# Altium footprint library Analog Devices.PcbLib: 28 footprints (part 1 of 2)
Each footprint in its own frame and in the unit in brackets; x right, y up, seen from the top. Pads: shape width x height; smd on the part's side, far side on the other; paste and mask are expansions set on the pad; w line width, h text height; cw(c..) or ccw(c..) is an arc to the next point about the centre after c.
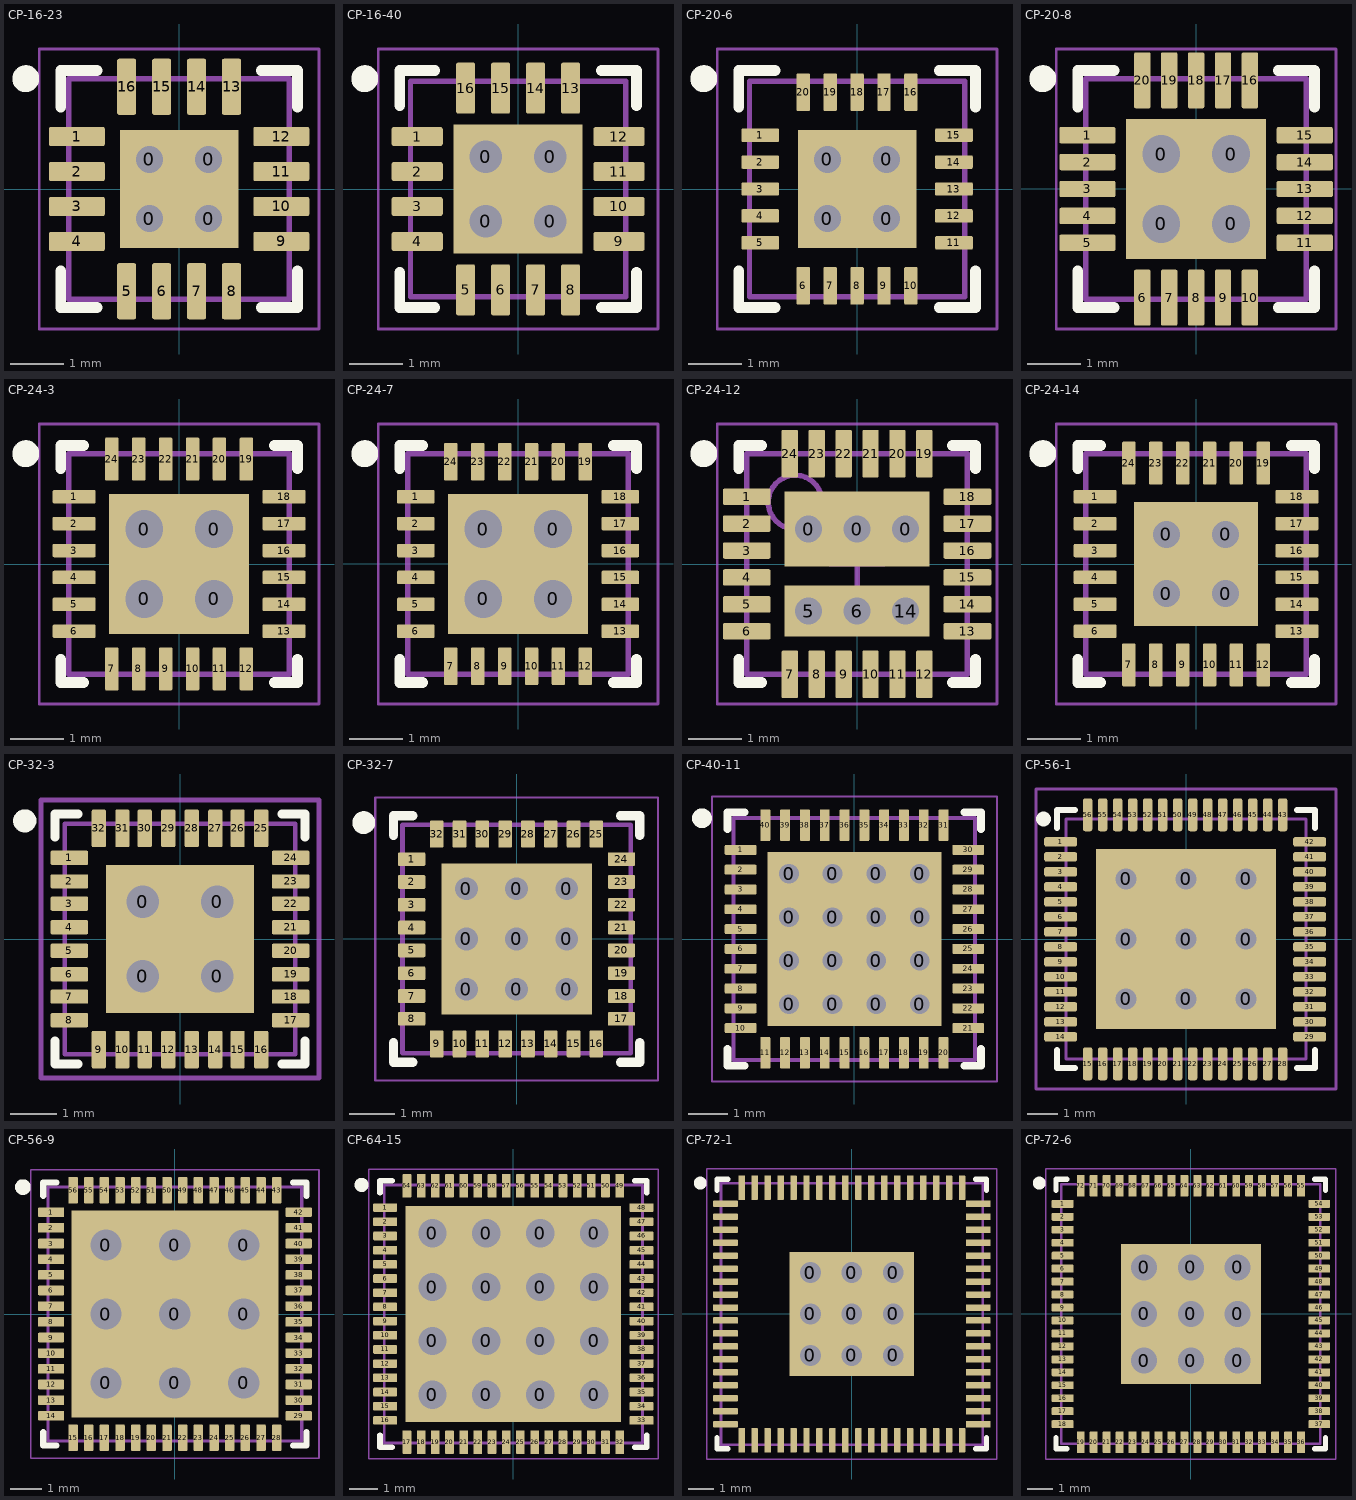
[diagram p0: the footprints below, top view; thin cyan lines are the x and y axes]

## CP-16-23 [mil] "QFN, 16-Leads, Body 4.00x4.00mm, Pitch 0.65mm, Thermal Pad 2.10x2.10mm, IPC Medium Density"
height 31.5
pads (20):
  rect 43.31x43.31 hole 19.68: 0(-21.65,-21.65) 0(-21.65,21.65) 0(21.65,-21.65) 0(21.65,21.65)
  rrect20% 41x14 smd: 1(-74.8,38.39) 2(-74.8,12.8) 3(-74.8,-12.8) 4(-74.8,-38.39) 9(74.8,-38.39) 10(74.8,-12.8) 11(74.8,12.8) 12(74.8,38.39)
  rrect20% 14x41 smd: 5(-38.39,-74.8) 6(-12.8,-74.8) 7(12.8,-74.8) 8(38.39,-74.8) 13(38.39,74.8) 14(12.8,74.8) 15(-12.8,74.8) 16(-38.39,74.8)
Top Overlay:
  circle w9.84: c-112.2,80.71 r4.92
  lines w7.87: -86.61,-60.04 -86.61,-86.61 -60.04,-86.61 ; -86.61,60.04 -86.61,86.61 -60.04,86.61 ; 60.04,-86.61 86.61,-86.61 86.61,-60.04 ; 60.04,86.61 86.61,86.61 86.61,60.04
Mechanical 1:
  lines w3.94: -80.71,-80.71 -80.71,80.71 80.71,80.71 80.71,-80.71 -80.71,-80.71
Mechanical 15:
  lines w1.97: -102.36,-102.36 -102.36,102.36 102.36,102.36 102.36,-102.36 -102.36,-102.36
  lines w3.94: -19.68,0 19.69,0 ; 0,-19.69 0,19.68
3D body "QFN-16-1EP_4x4mm_P0.65mm_EP2.1x2.1mm.step": height 43.31, standoff 0, extent -78.74,-78.74 78.74,78.74

## CP-16-40 [mm] "QFN, 16-Leads, Body 4.00x4.00mm, Pitch 0.65mm, Thermal Pad 2.40x2.40mm, IPC Medium Density"
height 1
pads (20):
  rect 1.2x1.2 hole 0.6: 0(-0.6,-0.6) 0(-0.6,0.6) 0(0.6,-0.6) 0(0.6,0.6)
  rrect20% 0.95x0.35 smd: 1(-1.875,0.975) 2(-1.875,0.325) 3(-1.875,-0.325) 4(-1.875,-0.975) 9(1.875,-0.975) 10(1.875,-0.325) 11(1.875,0.325) 12(1.875,0.975)
  rrect20% 0.35x0.95 smd: 5(-0.975,-1.875) 6(-0.325,-1.875) 7(0.325,-1.875) 8(0.975,-1.875) 13(0.975,1.875) 14(0.325,1.875) 15(-0.325,1.875) 16(-0.975,1.875)
Top Overlay:
  circle w0.25: c-2.85,2.05 r0.125
  lines w0.2: -2.2,-1.55 -2.2,-2.2 -1.55,-2.2 ; -2.2,1.55 -2.2,2.2 -1.55,2.2 ; 1.55,-2.2 2.2,-2.2 2.2,-1.55 ; 1.55,2.2 2.2,2.2 2.2,1.55
Mechanical 1:
  lines w0.1: -2,-2 2,-2 2,2 -2,2 -2,-2
Mechanical 15:
  lines w0.05: -2.6,-2.6 -2.6,2.6 2.6,2.6 2.6,-2.6 -2.6,-2.6
  lines w0.1: -0.5,0 0.5,0 ; 0,-0.5 0,0.5
3D body "QFN-16-1EP_4x4mm_P0.65mm_EP2.5x2.5mm.step": height 0.77, standoff 0, extent -2,-2 2,2

## CP-20-6 [mm] "QFN, 20-Leads, Body 4.00x4.00mm, Pitch 0.50mm, Thermal Pad 2.15x2.15mm, IPC Medium Density"
height 0.8
pads (24):
  rect 1.1x1.1 hole 0.5: 0(-0.55,-0.55) 0(-0.55,0.55) 0(0.55,-0.55) 0(0.55,0.55)
  rrect20% 0.7x0.25 smd: 1(-1.8,1) 2(-1.8,0.5) 3(-1.8,0) 4(-1.8,-0.5) 5(-1.8,-1) 11(1.8,-1) 12(1.8,-0.5) 13(1.8,0) 14(1.8,0.5) 15(1.8,1)
  rrect20% 0.25x0.7 smd: 6(-1,-1.8) 7(-0.5,-1.8) 8(0,-1.8) 9(0.5,-1.8) 10(1,-1.8) 16(1,1.8) 17(0.5,1.8) 18(0,1.8) 19(-0.5,1.8) 20(-1,1.8)
Top Overlay:
  circle w0.25: c-2.85,2.05 r0.125
  lines w0.2: -2.2,-1.525 -2.2,-2.2 -1.525,-2.2 ; -2.2,1.525 -2.2,2.2 -1.525,2.2 ; 1.525,-2.2 2.2,-2.2 2.2,-1.525 ; 1.525,2.2 2.2,2.2 2.2,1.525
Mechanical 1:
  lines w0.1: -2,-2 -2,2 2,2 2,-2 -2,-2
Mechanical 15:
  lines w0.05: -2.6,-2.6 2.6,-2.6 2.6,2.6 -2.6,2.6 -2.6,-2.6
  lines w0.1: -0.5,0 0.5,0 ; 0,-0.5 0,0.5
3D body "QFN-20-1EP_4x4mm_P0.5mm_EP2.25x2.25mm.step": height 1.1, standoff 0, extent -2,-2 2,2

## CP-20-8 [mil] "QFN, 20-Leads, Body 4.00x4.00mm, Pitch 0.50mm, Thermal Pad 2.55x2.55mm, IPC Medium Density"
height 31.5
pads (24):
  rect 51.18x51.18 hole 27.56: 0(-25.59,-25.59) 0(-25.59,25.59) 0(25.59,-25.59) 0(25.59,25.59)
  rrect20% 41x12 smd: 1(-79.5,39.37) 2(-79.5,19.69) 3(-79.5,0) 4(-79.5,-19.69) 5(-79.5,-39.37) 11(79.5,-39.37) 12(79.5,-19.69) 13(79.5,0) 14(79.5,19.69) 15(79.5,39.37)
  rrect20% 12x41 smd: 6(-39.37,-79.5) 7(-19.69,-79.5) 8(0,-79.5) 9(19.69,-79.5) 10(39.37,-79.5) 16(39.37,79.5) 17(19.69,79.5) 18(0,79.5) 19(-19.69,79.5) 20(-39.37,79.5)
Top Overlay:
  circle w9.84: c-112.2,80.71 r4.92
  lines w7.87: -86.61,-60.04 -86.61,-86.61 -60.04,-86.61 ; -86.61,60.04 -86.61,86.61 -60.04,86.61 ; 60.04,-86.61 86.61,-86.61 86.61,-60.04 ; 60.04,86.61 86.61,86.61 86.61,60.04
Mechanical 1:
  lines w3.94: -80.71,-80.71 80.71,-80.71 80.71,80.71 -80.71,80.71 -80.71,-80.71
Mechanical 15:
  lines w1.97: -102.36,-102.36 102.36,-102.36 102.36,102.36 -102.36,102.36 -102.36,-102.36
  lines w3.94: -19.68,0 19.69,0 ; 0,-19.69 0,19.68
3D body "QFN-20-1EP_4x4mm_P0.5mm_EP2.5x2.5mm.step": height 30.32, standoff 0, extent -78.74,-78.74 78.74,78.74

## CP-24-3 [mm]
height 0.95
pads (28):
  rect 1.3x1.3 hole 0.7: 0(-0.65,-0.65) 0(-0.65,0.65) 0(0.65,-0.65) 0(0.65,0.65)
  rrect20% 0.8x0.25 smd: 1(-1.95,1.25) 2(-1.95,0.75) 3(-1.95,0.25) 4(-1.95,-0.25) 5(-1.95,-0.75) 6(-1.95,-1.25) 13(1.95,-1.25) 14(1.95,-0.75) 15(1.95,-0.25) 16(1.95,0.25) 17(1.95,0.75) 18(1.95,1.25)
  rrect20% 0.25x0.8 smd: 7(-1.25,-1.95) 8(-0.75,-1.95) 9(-0.25,-1.95) 10(0.25,-1.95) 11(0.75,-1.95) 12(1.25,-1.95) 19(1.25,1.95) 20(0.75,1.95) 21(0.25,1.95) 22(-0.25,1.95) 23(-0.75,1.95) 24(-1.25,1.95)
Top Overlay:
  circle w0.25: c-2.85,2.05 r0.125
  lines w0.2: -2.2,-1.775 -2.2,-2.2 -1.775,-2.2 ; -2.2,1.775 -2.2,2.2 -1.775,2.2 ; 1.775,-2.2 2.2,-2.2 2.2,-1.775 ; 1.775,2.2 2.2,2.2 2.2,1.775
Mechanical 1:
  lines w0.1: -2.05,-2.05 2.05,-2.05 2.05,2.05 -2.05,2.05 -2.05,-2.05
Mechanical 15:
  lines w0.05: -2.6,-2.6 -2.6,2.6 2.6,2.6 2.6,-2.6 -2.6,-2.6
  lines w0.1: -0.5,0 0.5,0 ; 0,-0.5 0,0.5
3D body "QFN-24-1EP_4x4mm_P0.5mm_EP2.7x2.7mm.step": height 1.1, standoff 0, extent -2,-2 2,2

## CP-24-7 [mm] "QFN, 24-Leads, Body 4.00x4.00mm, Pitch 0.50mm, Thermal Pad 2.55x2.55mm, IPC Medium Density"
height 0.8
pads (28):
  rect 1.3x1.3 hole 0.7: 0(-0.65,-0.65) 0(-0.65,0.65) 0(0.65,-0.65) 0(0.65,0.65)
  rrect20% 0.7x0.25 smd: 1(-1.9,1.25) 2(-1.9,0.75) 3(-1.9,0.25) 4(-1.9,-0.25) 5(-1.9,-0.75) 6(-1.9,-1.25) 13(1.9,-1.25) 14(1.9,-0.75) 15(1.9,-0.25) 16(1.9,0.25) 17(1.9,0.75) 18(1.9,1.25)
  rrect20% 0.25x0.7 smd: 7(-1.25,-1.9) 8(-0.75,-1.9) 9(-0.25,-1.9) 10(0.25,-1.9) 11(0.75,-1.9) 12(1.25,-1.9) 19(1.25,1.9) 20(0.75,1.9) 21(0.25,1.9) 22(-0.25,1.9) 23(-0.75,1.9) 24(-1.25,1.9)
Top Overlay:
  circle w0.25: c-2.85,2.05 r0.125
  lines w0.2: -2.2,-1.775 -2.2,-2.2 -1.775,-2.2 ; -2.2,1.775 -2.2,2.2 -1.775,2.2 ; 1.775,-2.2 2.2,-2.2 2.2,-1.775 ; 1.775,2.2 2.2,2.2 2.2,1.775
Mechanical 1:
  lines w0.1: -2.05,-2.05 -2.05,2.05 2.05,2.05 2.05,-2.05 -2.05,-2.05
Mechanical 15:
  lines w0.05: -2.6,-2.6 2.6,-2.6 2.6,2.6 -2.6,2.6 -2.6,-2.6
  lines w0.1: -0.5,0 0.5,0 ; 0,-0.5 0,0.5
3D body "QFN-24-1EP_4x4mm_P0.5mm_EP2.6x2.6mm.step": height 0.77, standoff 0, extent -2,-2 2,2

## CP-24-12 [mil] "QFN, 24-Leads, Body 4.00x4.00mm, Pitch 0.50mm, IPC Medium Density"
height 31.5
pads (30):
  rect 35.43x55.12 hole 19.68: 0(-35.43,25.59) 0(0,25.59) 0(35.43,25.59)
  rrect20% 35x12 smd: 1(-80.71,49.21) 2(-80.71,29.53) 3(-80.71,9.84) 4(-80.71,-9.84) 5(-80.71,-29.53) 6(-80.71,-49.21) 13(80.71,-49.21) 14(80.71,-29.53) 15(80.71,-9.84) 16(80.71,9.84) 17(80.71,29.53) 18(80.71,49.21)
  rect 35.43x37.4 hole 19.68: 5(-35.43,-34.45) 6(0,-34.45) 14(35.43,-34.45)
  rrect20% 12x35 smd: 7(-49.21,-80.71) 8(-29.53,-80.71) 9(-9.84,-80.71) 10(9.84,-80.71) 11(29.53,-80.71) 12(49.21,-80.71) 19(49.21,80.71) 20(29.53,80.71) 21(9.84,80.71) 22(-9.84,80.71) 23(-29.53,80.71) 24(-49.21,80.71)
Top Overlay:
  circle w9.84: c-112.2,80.71 r4.92
  lines w7.87: -86.61,-69.88 -86.61,-86.61 -69.88,-86.61 ; -86.61,69.88 -86.61,86.61 -69.88,86.61 ; 69.88,-86.61 86.61,-86.61 86.61,-69.88 ; 69.88,86.61 86.61,86.61 86.61,69.88
Mechanical 1:
  lines w3.94: -80.71,-80.71 80.71,-80.71 80.71,80.71 -80.71,80.71 -80.71,-80.71
Mechanical 13:
  circle w3.94: c-45.28,45.28 r19.68
Mechanical 15:
  lines w1.97: -102.36,-102.36 102.36,-102.36 102.36,102.36 -102.36,102.36 -102.36,-102.36
  lines w3.94: -19.69,0 19.68,0 ; 0,-19.68 0,19.69
3D body "Analog_Devices_CP-24-12.STEP": height 29.53, standoff 0, extent -78.74,-78.74 78.74,78.74

## CP-24-14 [mm]
height 0.8
pads (28):
  rect 1.2x1.2 hole 0.5: 0(-0.55,-0.55) 0(-0.55,0.55) 0(0.55,-0.55) 0(0.55,0.55)
  rrect20% 0.8x0.25 smd: 1(-1.875,1.25) 2(-1.875,0.75) 3(-1.875,0.25) 4(-1.875,-0.25) 5(-1.875,-0.75) 6(-1.875,-1.25) 13(1.875,-1.25) 14(1.875,-0.75) 15(1.875,-0.25) 16(1.875,0.25) 17(1.875,0.75) 18(1.875,1.25)
  rrect20% 0.25x0.8 smd: 7(-1.25,-1.875) 8(-0.75,-1.875) 9(-0.25,-1.875) 10(0.25,-1.875) 11(0.75,-1.875) 12(1.25,-1.875) 19(1.25,1.875) 20(0.75,1.875) 21(0.25,1.875) 22(-0.25,1.875) 23(-0.75,1.875) 24(-1.25,1.875)
Top Overlay:
  circle w0.25: c-2.85,2.05 r0.125
  lines w0.2: -2.2,-1.775 -2.2,-2.2 -1.775,-2.2 ; -2.2,1.775 -2.2,2.2 -1.775,2.2 ; 1.775,-2.2 2.2,-2.2 2.2,-1.775 ; 1.775,2.2 2.2,2.2 2.2,1.775
Mechanical 1:
  lines w0.1: -2.05,-2.05 2.05,-2.05 2.05,2.05 -2.05,2.05 -2.05,-2.05
Mechanical 15:
  lines w0.05: -2.6,-2.6 2.6,-2.6 2.6,2.6 -2.6,2.6 -2.6,-2.6
  lines w0.1: -0.5,0 0.5,0 ; 0,-0.5 0,0.5
3D body "QFN-24-1EP_4x4mm_P0.5mm_EP2.6x2.6mm.step": height 0.77, standoff 0, extent -2,-2 2,2

## CP-32-3 [mil]
pads (36):
  rect 62.99x62.99 hole 27.56: 0(-31.5,-31.5) 0(-31.5,31.5) 0(31.5,-31.5) 0(31.5,31.5)
  rrect20% 32x12 smd: 1(-94,69) 2(-94,49) 3(-94,30) 4(-94,10) 5(-94,-10) 6(-94,-30) 7(-94,-49) 8(-94,-69) 17(94,-69) 18(94,-49) 19(94,-30) 20(94,-10) 21(94,10) 22(94,30) 23(94,49) 24(94,69)
  rrect20% 12x32 smd: 9(-69,-94) 10(-49,-94) 11(-30,-94) 12(-10,-94) 13(10,-94) 14(30,-94) 15(49,-94) 16(69,-94) 25(69,94) 26(49,94) 27(30,94) 28(10,94) 29(-10,94) 30(-30,94) 31(-49,94) 32(-69,94)
Top Overlay:
  circle w9.84: c-131.89,100.39 r4.92
  lines w7.87: -106.3,-86.61 -106.3,-106.3 -86.61,-106.3 ; -106.3,86.61 -106.3,106.3 -86.61,106.3 ; 86.61,-106.3 106.3,-106.3 106.3,-86.61 ; 86.61,106.3 106.3,106.3 106.3,86.61
Mechanical 1:
  lines w3.94: -98,-98 98,-98 98,98 -98,98 -98,-98
Mechanical 15:
  lines w3.94: -19.68,0 19.68,0 ; 0,-19.68 0,19.68 ; -118.11,-118.11 118.11,-118.11 118.11,118.11 -118.11,118.11 -118.11,-118.11
3D body "QFN-32-1EP_5x5mm_P0.5mm_EP3.3x3.3mm.step": height 34.45, standoff 0, extent -98.42,-98.43 98.43,98.43

## CP-32-7 [mm] "QFN, 32-Leads, Body 5.00x5.00mm, Pitch 0.50mm, Thermal Pad 3.10x3.10mm, IPC Medium Density"
height 0.8
pads (41):
  rect 1.1x1.1 hole 0.5: 0(-1.1,-1.1) 0(-1.1,0) 0(-1.1,1.1) 0(0,-1.1) 0(0,0) 0(0,1.1) 0(1.1,-1.1) 0(1.1,0) 0(1.1,1.1)
  rrect20% 0.6x0.3 smd: 1(-2.3,1.75) 2(-2.3,1.25) 3(-2.3,0.75) 4(-2.3,0.25) 5(-2.3,-0.25) 6(-2.3,-0.75) 7(-2.3,-1.25) 8(-2.3,-1.75) 17(2.3,-1.75) 18(2.3,-1.25) 19(2.3,-0.75) 20(2.3,-0.25) 21(2.3,0.25) 22(2.3,0.75) 23(2.3,1.25) 24(2.3,1.75)
  rrect20% 0.3x0.6 smd: 9(-1.75,-2.3) 10(-1.25,-2.3) 11(-0.75,-2.3) 12(-0.25,-2.3) 13(0.25,-2.3) 14(0.75,-2.3) 15(1.25,-2.3) 16(1.75,-2.3) 25(1.75,2.3) 26(1.25,2.3) 27(0.75,2.3) 28(0.25,2.3) 29(-0.25,2.3) 30(-0.75,2.3) 31(-1.25,2.3) 32(-1.75,2.3)
Top Overlay:
  circle w0.25: c-3.35,2.55 r0.125
  lines w0.2: -2.7,-2.275 -2.7,-2.7 -2.275,-2.7 ; -2.7,2.275 -2.7,2.7 -2.275,2.7 ; 2.275,-2.7 2.7,-2.7 2.7,-2.275 ; 2.275,2.7 2.7,2.7 2.7,2.275
Mechanical 13:
  lines w0.1: -2.5,-2.5 2.5,-2.5 2.5,2.5 -2.5,2.5 -2.5,-2.5
Mechanical 15:
  lines w0.05: -3.1,-3.1 3.1,-3.1 3.1,3.1 -3.1,3.1 -3.1,-3.1
  lines w0.1: -0.5,0 0.5,0 ; 0,-0.5 0,0.5
3D body "QFN-32-1EP_5x5mm_P0.5mm_EP3.3x3.3mm.step": height 0.87, standoff 0, extent -2.5,-2.5 2.5,2.5

## CP-40-11 [mm]
height 0.8
pads (56):
  rect 1.1x1.1 hole 0.5: 0(-1.65,-1.65) 0(-1.65,-0.55) 0(-1.65,0.55) 0(-1.65,1.65) 0(-0.55,-1.65) 0(-0.55,-0.55) 0(-0.55,0.55) 0(-0.55,1.65) 0(0.55,-1.65) 0(0.55,-0.55) 0(0.55,0.55) 0(0.55,1.65) 0(1.65,-1.65) 0(1.65,-0.55) 0(1.65,0.55) 0(1.65,1.65)
  rrect20% 0.8x0.25 smd: 1(-2.875,2.25) 2(-2.875,1.75) 3(-2.875,1.25) 4(-2.875,0.75) 5(-2.875,0.25) 6(-2.875,-0.25) 7(-2.875,-0.75) 8(-2.875,-1.25) 9(-2.875,-1.75) 10(-2.875,-2.25) 21(2.875,-2.25) 22(2.875,-1.75) 23(2.875,-1.25) 24(2.875,-0.75) 25(2.875,-0.25) 26(2.875,0.25) 27(2.875,0.75) 28(2.875,1.25) 29(2.875,1.75) 30(2.875,2.25)
  rrect20% 0.25x0.8 smd: 11(-2.25,-2.875) 12(-1.75,-2.875) 13(-1.25,-2.875) 14(-0.75,-2.875) 15(-0.25,-2.875) 16(0.25,-2.875) 17(0.75,-2.875) 18(1.25,-2.875) 19(1.75,-2.875) 20(2.25,-2.875) 31(2.25,2.875) 32(1.75,2.875) 33(1.25,2.875) 34(0.75,2.875) 35(0.25,2.875) 36(-0.25,2.875) 37(-0.75,2.875) 38(-1.25,2.875) 39(-1.75,2.875) 40(-2.25,2.875)
Top Overlay:
  circle w0.25: c-3.85,3.05 r0.125
  lines w0.2: -3.2,-2.775 -3.2,-3.2 -2.775,-3.2 ; -3.2,2.775 -3.2,3.2 -2.775,3.2 ; 2.775,-3.2 3.2,-3.2 3.2,-2.775 ; 2.775,3.2 3.2,3.2 3.2,2.775
Mechanical 1:
  lines w0.1: -3.05,-3.05 3.05,-3.05 3.05,3.05 -3.05,3.05 -3.05,-3.05
Mechanical 15:
  lines w0.05: -3.6,-3.6 3.6,-3.6 3.6,3.6 -3.6,3.6 -3.6,-3.6
  lines w0.1: -0.5,0 0.5,0 ; 0,-0.5 0,0.5
3D body "QFN-40-1EP_6x6mm_P0.5mm_EP4.6x4.6mm.step": height 1, standoff 0, extent -3,-3 3,3

## CP-56-1 [mm]
pads (66):
  rect 2x2 hole 0.7: 0(-2,-2) 0(-2,0) 0(-2,2) 0(0,-2) 0(0,0) 0(0,2) 0(2,-2) 0(2,0) 0(2,2)
  rrect50% 1.1x0.32 smd: 1(-4.18,3.24) 2(-4.18,2.74) 3(-4.18,2.24) 4(-4.18,1.74) 5(-4.18,1.24) 6(-4.18,0.74) 7(-4.18,0.24) 8(-4.18,-0.26) 9(-4.18,-0.76) 10(-4.18,-1.26) 11(-4.18,-1.76) 12(-4.18,-2.26) 13(-4.18,-2.76) 14(-4.18,-3.26) 29(4.12,-3.26) 30(4.12,-2.76) 31(4.12,-2.26) 32(4.12,-1.76) 33(4.12,-1.26) 34(4.12,-0.76) 35(4.12,-0.26) 36(4.12,0.24) 37(4.12,0.74) 38(4.12,1.24) 39(4.12,1.74) 40(4.12,2.24) 41(4.12,2.74) 42(4.12,3.24)
  rrect50% 0.32x1.1 smd: 15(-3.28,-4.16) 16(-2.78,-4.16) 17(-2.28,-4.16) 18(-1.78,-4.16) 19(-1.28,-4.16) 20(-0.78,-4.16) 21(-0.28,-4.16) 22(0.22,-4.16) 23(0.72,-4.16) 24(1.22,-4.16) 25(1.72,-4.16) 26(2.22,-4.16) 27(2.72,-4.16) 28(3.22,-4.16) 43(3.22,4.14) 44(2.72,4.14) 45(2.22,4.14) 46(1.72,4.14) 47(1.22,4.14) 48(0.72,4.14) 49(0.22,4.14) 50(-0.28,4.14) 51(-0.78,4.14) 52(-1.28,4.14) 53(-1.78,4.14) 54(-2.28,4.14) 55(-2.78,4.14) 56(-3.28,4.14)
  round 0.5 on Top Overlay: ""(-4.75,4)
Top Overlay:
  lines w0.2: -4.3,-3.7 -4.3,-4.3 -3.7,-4.3 ; -4.3,3.7 -4.3,4.3 -3.7,4.3 ; 3.7,-4.3 4.3,-4.3 4.3,-3.7 ; 3.7,4.3 4.3,4.3 4.3,3.7
Mechanical 1:
  lines w0.1: -4,-4 4,-4 4,4 -4,4 -4,-4
Mechanical 15:
  lines w0.1: -0.5,0 0.5,0 ; 0,-0.5 0,0.5 ; -5,-5 5,-5 5,5 -5,5 -5,-5
3D body "QFN-56-1EP_8x8mm_P0.5mm_EP5.6x5.6mm.step": height 1.1, standoff 0, extent -4,-4 4,4

## CP-56-9 [mil] "QFN, 56-Leads, Body 8.00x8.00mm, Pitch 0.50mm, Thermal Pad 6.60x6.60mm, IPC Medium Density"
height 31.5
pads (65):
  rect 86.61x86.61 hole 39.37: 0(-86.61,-86.61) 0(-86.61,0) 0(-86.61,86.61) 0(0,-86.61) 0(0,0) 0(0,86.61) 0(86.61,-86.61) 0(86.61,0) 0(86.61,86.61)
  rrect20% 33x12 smd: 1(-155.51,127.95) 2(-155.51,108.27) 3(-155.51,88.58) 4(-155.51,68.9) 5(-155.51,49.21) 6(-155.51,29.53) 7(-155.51,9.84) 8(-155.51,-9.84) 9(-155.51,-29.53) 10(-155.51,-49.21) 11(-155.51,-68.9) 12(-155.51,-88.58) 13(-155.51,-108.27) 14(-155.51,-127.95) 29(155.51,-127.95) 30(155.51,-108.27) 31(155.51,-88.58) 32(155.51,-68.9) 33(155.51,-49.21) 34(155.51,-29.53) 35(155.51,-9.84) 36(155.51,9.84) 37(155.51,29.53) 38(155.51,49.21) 39(155.51,68.9) 40(155.51,88.58) 41(155.51,108.27) 42(155.51,127.95)
  rrect20% 12x33 smd: 15(-127.95,-155.51) 16(-108.27,-155.51) 17(-88.58,-155.51) 18(-68.9,-155.51) 19(-49.21,-155.51) 20(-29.53,-155.51) 21(-9.84,-155.51) 22(9.84,-155.51) 23(29.53,-155.51) 24(49.21,-155.51) 25(68.9,-155.51) 26(88.58,-155.51) 27(108.27,-155.51) 28(127.95,-155.51) 43(127.95,155.51) 44(108.27,155.51) 45(88.58,155.51) 46(68.9,155.51) 47(49.21,155.51) 48(29.53,155.51) 49(9.84,155.51) 50(-9.84,155.51) 51(-29.53,155.51) 52(-49.21,155.51) 53(-68.9,155.51) 54(-88.58,155.51) 55(-108.27,155.51) 56(-127.95,155.51)
Top Overlay:
  circle w9.84: c-190.94,159.45 r4.92
  lines w7.87: -165.35,-148.62 -165.35,-165.35 -148.62,-165.35 ; -165.35,148.62 -165.35,165.35 -148.62,165.35 ; 148.62,-165.35 165.35,-165.35 165.35,-148.62 ; 148.62,165.35 165.35,165.35 165.35,148.62
Mechanical 1:
  lines w3.94: -159.45,-159.45 -159.45,159.45 159.45,159.45 159.45,-159.45 -159.45,-159.45
Mechanical 15:
  lines w1.97: -181.1,-181.1 -181.1,181.1 181.1,181.1 181.1,-181.1 -181.1,-181.1
  lines w3.94: -19.69,0 19.68,0 ; 0,-19.68 0,19.69
3D body "QFN-56-1EP_8x8mm_P0.5mm_EP5.6x5.6mm.step": height 43.31, standoff 0, extent -157.48,-157.48 157.48,157.48

## CP-64-15 [mil] "QFN, 64-Leads, Body 9.00x9.00mm, Pitch 0.50mm, Thermal Pad 7.60x7.60mm, IPC Medium Density"
height 31.5
pads (80):
  rect 74.8x74.8 hole 39.37: 0(-112.2,-112.2) 0(-112.2,-37.4) 0(-112.2,37.4) 0(-112.2,112.2) 0(-37.4,-112.2) 0(-37.4,-37.4) 0(-37.4,37.4) 0(-37.4,112.2) 0(37.4,-112.2) 0(37.4,-37.4) 0(37.4,37.4) 0(37.4,112.2) 0(112.2,-112.2) 0(112.2,-37.4) 0(112.2,37.4) 0(112.2,112.2)
  rrect20% 33x12 smd: 1(-177.92,147.64) 2(-177.92,127.95) 3(-177.92,108.27) 4(-177.92,88.58) 5(-177.92,68.9) 6(-177.92,49.21) 7(-177.92,29.53) 8(-177.92,9.84) 9(-177.92,-9.84) 10(-177.92,-29.53) 11(-177.92,-49.21) 12(-177.92,-68.9) 13(-177.92,-88.58) 14(-177.92,-108.27) 15(-177.92,-127.95) 16(-177.92,-147.64) 33(177.92,-147.64) 34(177.92,-127.95) 35(177.92,-108.27) 36(177.92,-88.58) 37(177.92,-68.9) 38(177.92,-49.21) 39(177.92,-29.53) 40(177.92,-9.84) 41(177.92,9.84) 42(177.92,29.53) 43(177.92,49.21) 44(177.92,68.9) 45(177.92,88.58) 46(177.92,108.27) 47(177.92,127.95) 48(177.92,147.64)
  rrect20% 12x33 smd: 17(-147.64,-177.92) 18(-127.95,-177.92) 19(-108.27,-177.92) 20(-88.58,-177.92) 21(-68.9,-177.92) 22(-49.21,-177.92) 23(-29.53,-177.92) 24(-9.84,-177.92) 25(9.84,-177.92) 26(29.53,-177.92) 27(49.21,-177.92) 28(68.9,-177.92) 29(88.58,-177.92) 30(108.27,-177.92) 31(127.95,-177.92) 32(147.64,-177.92) 49(147.64,177.92) 50(127.95,177.92) 51(108.27,177.92) 52(88.58,177.92) 53(68.9,177.92) 54(49.21,177.92) 55(29.53,177.92) 56(9.84,177.92) 57(-9.84,177.92) 58(-29.53,177.92) 59(-49.21,177.92) 60(-68.9,177.92) 61(-88.58,177.92) 62(-108.27,177.92) 63(-127.95,177.92) 64(-147.64,177.92)
Top Overlay:
  circle w9.84: c-210.63,179.13 r4.92
  lines w7.87: -185.04,-168.31 -185.04,-185.04 -168.31,-185.04 ; -185.04,168.31 -185.04,185.04 -168.31,185.04 ; 168.31,-185.04 185.04,-185.04 185.04,-168.31 ; 168.31,185.04 185.04,185.04 185.04,168.31
Mechanical 1:
  lines w3.94: -179.13,-179.13 179.13,-179.13 179.13,179.13 -179.13,179.13 -179.13,-179.13
Mechanical 15:
  lines w1.97: -200.79,-200.79 200.79,-200.79 200.79,200.79 -200.79,200.79 -200.79,-200.79
  lines w3.94: -19.68,0 19.68,0 ; 0,-19.68 0,19.68
3D body "QFN-64-1EP_9x9mm_P0.5mm_EP7.65x7.65mm.step": height 43.31, standoff 0, extent -177.16,-177.16 177.16,177.16

## CP-72-1 [mm] "QFN, 72-Leads, Body 10.00x10.00mm, Pitch 0.50mm, Thermal Pad 4.70x4.70mm, IPC Medium Density"
height 1
pads (81):
  rect 1.6x1.6 hole 0.8: 0(-1.6,-1.6) 0(-1.6,0) 0(-1.6,1.6) 0(0,-1.6) 0(0,0) 0(0,1.6) 0(1.6,-1.6) 0(1.6,0) 0(1.6,1.6)
  rrect20% 0.95x0.25 smd: 1(-4.875,4.25) 2(-4.875,3.75) 3(-4.875,3.25) 4(-4.875,2.75) 5(-4.875,2.25) 6(-4.875,1.75) 7(-4.875,1.25) 8(-4.875,0.75) 9(-4.875,0.25) 10(-4.875,-0.25) 11(-4.875,-0.75) 12(-4.875,-1.25) 13(-4.875,-1.75) 14(-4.875,-2.25) 15(-4.875,-2.75) 16(-4.875,-3.25) 17(-4.875,-3.75) 18(-4.875,-4.25) 37(4.875,-4.25) 38(4.875,-3.75) 39(4.875,-3.25) 40(4.875,-2.75) 41(4.875,-2.25) 42(4.875,-1.75) 43(4.875,-1.25) 44(4.875,-0.75) 45(4.875,-0.25) 46(4.875,0.25) 47(4.875,0.75) 48(4.875,1.25) 49(4.875,1.75) 50(4.875,2.25) 51(4.875,2.75) 52(4.875,3.25) 53(4.875,3.75) 54(4.875,4.25)
  rrect20% 0.25x0.95 smd: 19(-4.25,-4.875) 20(-3.75,-4.875) 21(-3.25,-4.875) 22(-2.75,-4.875) 23(-2.25,-4.875) 24(-1.75,-4.875) 25(-1.25,-4.875) 26(-0.75,-4.875) 27(-0.25,-4.875) 28(0.25,-4.875) 29(0.75,-4.875) 30(1.25,-4.875) 31(1.75,-4.875) 32(2.25,-4.875) 33(2.75,-4.875) 34(3.25,-4.875) 35(3.75,-4.875) 36(4.25,-4.875) 55(4.25,4.875) 56(3.75,4.875) 57(3.25,4.875) 58(2.75,4.875) 59(2.25,4.875) 60(1.75,4.875) 61(1.25,4.875) 62(0.75,4.875) 63(0.25,4.875) 64(-0.25,4.875) 65(-0.75,4.875) 66(-1.25,4.875) 67(-1.75,4.875) 68(-2.25,4.875) 69(-2.75,4.875) 70(-3.25,4.875) 71(-3.75,4.875) 72(-4.25,4.875)
Top Overlay:
  circle w0.25: c-5.85,5.05 r0.125
  lines w0.2: -5.2,-4.775 -5.2,-5.2 -4.775,-5.2 ; -5.2,4.775 -5.2,5.2 -4.775,5.2 ; 4.775,-5.2 5.2,-5.2 5.2,-4.775 ; 4.775,5.2 5.2,5.2 5.2,4.775
Mechanical 13:
  lines w0.1: -5.05,-5.05 5.05,-5.05 5.05,5.05 -5.05,5.05 -5.05,-5.05
Mechanical 15:
  lines w0.05: -5.6,-5.6 5.6,-5.6 5.6,5.6 -5.6,5.6 -5.6,-5.6
  lines w0.1: -0.5,0 0.5,0 ; 0,-0.5 0,0.5
3D body "QFN-72-1EP_10x10mm_P0.5mm_EP4.7x4.7mm.STEP": height 0.85, standoff 0, extent -5,-5 5,5

## CP-72-6 [mil] "QFN, 72-Leads, Body 10.00x10.00mm, Pitch 0.50mm, Thermal Pad 5.30x5.30mm, IPC Medium Density"
height 39.37
pads (81):
  rect 70.87x70.87 hole 39.37: 0(-70.87,-70.87) 0(-70.87,0) 0(-70.87,70.87) 0(0,-70.87) 0(0,0) 0(0,70.87) 0(70.87,-70.87) 0(70.87,0) 0(70.87,70.87)
  rrect20% 33x12 smd: 1(-194.88,167.32) 2(-194.88,147.64) 3(-194.88,127.95) 4(-194.88,108.27) 5(-194.88,88.58) 6(-194.88,68.9) 7(-194.88,49.21) 8(-194.88,29.53) 9(-194.88,9.84) 10(-194.88,-9.84) 11(-194.88,-29.53) 12(-194.88,-49.21) 13(-194.88,-68.9) 14(-194.88,-88.58) 15(-194.88,-108.27) 16(-194.88,-127.95) 17(-194.88,-147.64) 18(-194.88,-167.32) 37(194.88,-167.32) 38(194.88,-147.64) 39(194.88,-127.95) 40(194.88,-108.27) 41(194.88,-88.58) 42(194.88,-68.9) 43(194.88,-49.21) 44(194.88,-29.53) 45(194.88,-9.84) 46(194.88,9.84) 47(194.88,29.53) 48(194.88,49.21) 49(194.88,68.9) 50(194.88,88.58) 51(194.88,108.27) 52(194.88,127.95) 53(194.88,147.64) 54(194.88,167.32)
  rrect20% 12x33 smd: 19(-167.32,-194.88) 20(-147.64,-194.88) 21(-127.95,-194.88) 22(-108.27,-194.88) 23(-88.58,-194.88) 24(-68.9,-194.88) 25(-49.21,-194.88) 26(-29.53,-194.88) 27(-9.84,-194.88) 28(9.84,-194.88) 29(29.53,-194.88) 30(49.21,-194.88) 31(68.9,-194.88) 32(88.58,-194.88) 33(108.27,-194.88) 34(127.95,-194.88) 35(147.64,-194.88) 36(167.32,-194.88) 55(167.32,194.88) 56(147.64,194.88) 57(127.95,194.88) 58(108.27,194.88) 59(88.58,194.88) 60(68.9,194.88) 61(49.21,194.88) 62(29.53,194.88) 63(9.84,194.88) 64(-9.84,194.88) 65(-29.53,194.88) 66(-49.21,194.88) 67(-68.9,194.88) 68(-88.58,194.88) 69(-108.27,194.88) 70(-127.95,194.88) 71(-147.64,194.88) 72(-167.32,194.88)
Top Overlay:
  circle w9.84: c-230.31,198.82 r4.92
  lines w7.87: -204.72,-187.99 -204.72,-204.72 -187.99,-204.72 ; -204.72,187.99 -204.72,204.72 -187.99,204.72 ; 187.99,-204.72 204.72,-204.72 204.72,-187.99 ; 187.99,204.72 204.72,204.72 204.72,187.99
Mechanical 1:
  lines w3.94: -196.85,-196.85 -196.85,196.85 196.85,196.85 196.85,-196.85 -196.85,-196.85
Mechanical 15:
  lines w1.97: -220.47,-220.47 220.47,-220.47 220.47,220.47 -220.47,220.47 -220.47,-220.47
  lines w3.94: -19.68,0 19.69,0 ; 0,-19.69 0,19.68
3D body "QFN-72-1EP_10x10mm_P0.5mm_EP5.3x5.3mm.STEP": height 33.46, standoff 0, extent -196.85,-196.85 196.85,196.85